# Altium footprint library Molex.PcbLib: 10 footprints
Each footprint in its own frame and in the unit in brackets; x right, y up, seen from the top. Pads: shape width x height; smd on the part's side, far side on the other; paste and mask are expansions set on the pad; w line width, h text height; cw(c..) or ccw(c..) is an arc to the next point about the centre after c.
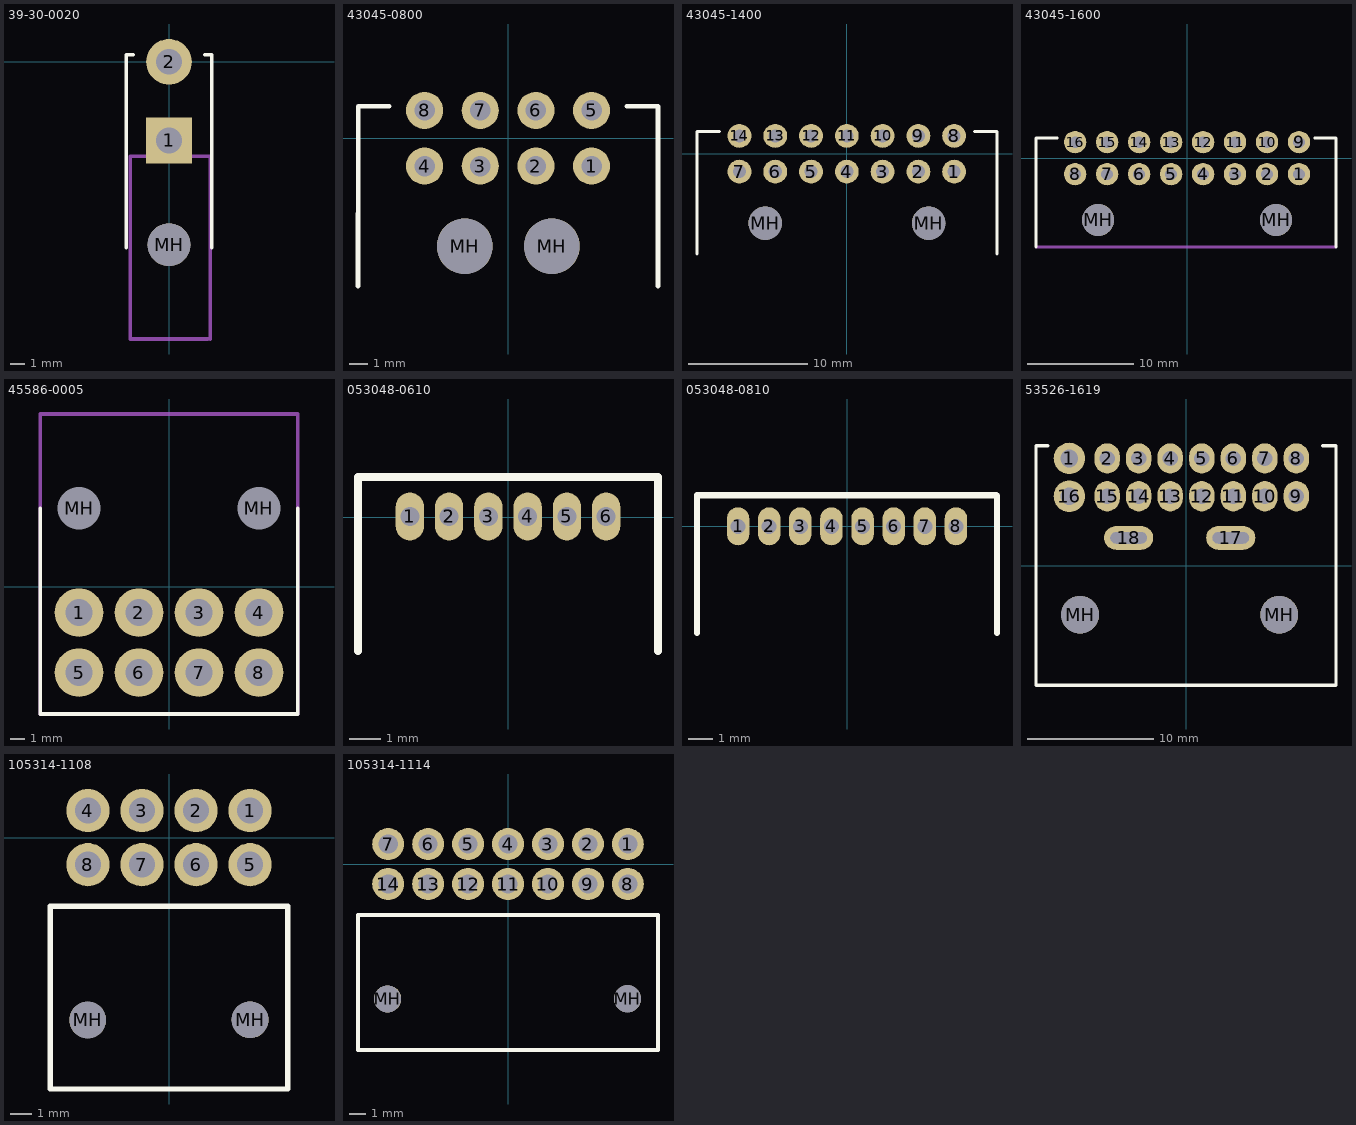
[diagram p0: the footprints below, top view; thin cyan lines are the x and y axes]

## 39-30-0020 [mm] "MINI-FIT JR RIGHT ANGLE"
height 9.6
pads (3):
  rect 3.2x3.2 hole 1.8: 1(0,-5.5)
  round 3.2 hole 1.8: 2(0,0)
  round 3 hole 3 unplated: MH(0,-12.8)
Top Overlay:
  lines w0.254: -3,-13 -3,0.5 -2.5,0.5 ; 2.5,0.5 3,0.5 3,-13
Mechanical 1:
  lines w0.254: 2.7,-19.4 -2.7,-19.4 -2.7,-6.6 2.9,-6.6 2.9,-19.4
3D body "39-30-1020.stp": height 11.4, standoff -3.6, extent -2.8,-19.367 3,0.567

## 43045-0800 [mm] "Micro-Fit 3.0 Right-Angle Header, 3.00mm Pitch, Dual Row, 8 Circuits, with Snap-in Plastic Peg PCB Lock, Tin, Glow-Wire Capable, Black"
height 8.77
pads (10):
  round 2 hole 1.1: 1(4.5,-1.5) 2(1.5,-1.5) 3(-1.5,-1.5) 4(-4.5,-1.5) 5(4.5,1.5) 6(1.5,1.5) 7(-1.5,1.5) 8(-4.5,1.5)
  round 3 hole 3 unplated: MH(-2.34,-5.82) MH(2.36,-5.82)
Top Overlay:
  lines w0.254: -8.09,-7.97 -8.08,0 -8.08,1.73 -6.4,1.73 ; 6.4,1.73 8.08,1.73 8.08,0 8.08,-7.97
3D body "User Library-43045-0800.step": height 8.83, standoff -3.12, extent -8.075,-10.51 8.075,1.73

## 43045-1400 [mm] "Micro-Fit 3.0 Right-Angle Header, 3.00mm Pitch, Dual Row, 14 Circuits, with Snap-in Plastic Peg PCB Lock, Tin, Glow-Wire Capable, Black"
height 8.77
pads (16):
  round 2 hole 1.1: 1(9,-1.5) 2(6,-1.5) 3(3,-1.5) 4(0,-1.5) 5(-3,-1.5) 6(-6,-1.5) 7(-9,-1.5) 8(9,1.5) 9(6,1.5) 10(3,1.5) 11(0,1.5) 12(-3,1.5) 13(-6,1.5) 14(-9,1.5)
  round 2.8 hole 2.8 unplated: MH(-6.84,-5.82) MH(6.86,-5.82)
Top Overlay:
  lines w0.254: -12.56,-8.41 -12.56,1.88 -10.68,1.88 ; 10.71,1.88 12.59,1.88 12.59,-7.13 12.59,-8.41
3D body "430451400.stp": height 8.83, standoff -3.12, extent -12.56,-10.36 12.59,1.88

## 43045-1600 [mm] "Micro-Fit 3.0 Right-Angle Header, 3.00mm Pitch, Dual Row, 16 Circuits, with Snap-in Plastic Peg PCB Lock, Tin, Glow-Wire Capable, Black"
height 8.77
pads (18):
  round 2.1 hole 1.1: 1(10.5,-1.5) 2(7.5,-1.5) 3(4.5,-1.5) 4(1.5,-1.5) 5(-1.5,-1.5) 6(-4.5,-1.5) 7(-7.5,-1.5) 8(-10.5,-1.5) 9(10.5,1.5) 10(7.5,1.5) 11(4.5,1.5) 12(1.5,1.5) 13(-1.5,1.5) 14(-4.5,1.5) 15(-7.5,1.5) 16(-10.5,1.5)
  round 3 hole 3 unplated: MH(-8.34,-5.8) MH(8.36,-5.8)
Top Overlay:
  lines w0.254: -14.17,-8.33 -14.17,1.88 -12.18,1.88 ; 11.97,1.88 13.97,1.88 13.97,-8.34
Mechanical 1:
  lines w0.254: -14.16,-8.34 13.97,-8.34
3D body "User Library-Molex43045-1600.step": height 8.83, standoff -3.12, extent -14.175,-10.37 13.975,1.87

## 45586-0005 [mm] "Mini-Fit Jr. Header, 4.2mm pitch, Dual Row, Right-Angle, Third Generation Polarization Type for PCIe Applications, 8 Circuits"
height 10
pads (10):
  round 3.4 hole 1.9: 1(-6.3,-1.8) 2(-2.1,-1.8) 3(2.1,-1.8) 4(6.3,-1.8) 5(-6.3,-6) 6(-2.1,-6) 7(2.1,-6) 8(6.3,-6)
  round 2.8 hole 3 unplated: MH(-6.3,5.5) MH(6.3,5.5)
Top Overlay:
  lines w0.254: -9,5.5 -9,-8.9 9,-8.9 9,5.5
Route Tool Path:
  lines w0.254: -9,-8.9 9,-8.9 9,12.1 -9,12.1 -9,-8.9
3D body "39-30-0080.stp": height 11.4, standoff -3.6, extent -9.2,-7.767 9.2,12.167

## 053048-0610 [mm] "PicoBlade™ CONN HEADER 6POS 1.25MM R/A TIN"
height 3.5
pads (7):
  oval 0.9x1.524 hole 0.6: 1(-3.125,0.025) 2(-1.875,0.025) 2(-1.875,0.025) 3(-0.625,0.025) 4(0.625,0.025) 5(1.875,0.025) 6(3.125,0.025)
Top Overlay:
  lines w0.254: -4.775,-4.25 -4.775,1.275 4.775,1.275 4.775,-4.25
3D body "530480610.stp": height 3.6, standoff -2.2, extent -4.65,-4.425 4.6,1.075

## 053048-0810 [mm] "PicoBlade™ CONN HEADER 8POS 1.25MM R/A TIN"
height 3.5
pads (9):
  oval 0.9x1.524 hole 0.6: 1(-4.375,0) 2(-3.125,0) 2(-3.125,0) 3(-1.875,0) 4(-0.625,0) 5(0.625,0) 6(1.875,0) 7(3.125,0) 8(4.375,0)
Top Overlay:
  lines w0.254: -6.025,-4.275 -6.025,1.25 6,1.25 6.025,1.225 ; 6.025,-4.275 6.025,1.225 ; 6.025,1.225 6.025,1.225
3D body "530480810.stp": height 3.6, standoff -2.2, extent -5.875,-4.425 5.875,1.075

## 53526-1619 [mm]
height 24
pads (20):
  round 2.5 hole 1.4: 1(-9.25,8.5) 16(-9.25,5.5)
  oval 2x2.4 hole 1.2: 2(-6.25,8.5) 3(-3.75,8.5) 4(-1.25,8.5) 5(1.25,8.5) 6(3.75,8.5) 7(6.25,8.5) 8(8.75,8.5) 9(8.75,5.5) 10(6.25,5.5) 11(3.75,5.5) 12(1.25,5.5) 13(-1.25,5.5) 14(-3.75,5.5) 15(-6.25,5.5)
  oval 3.9x1.9 hole 0.9 slot 2.9 at 0 deg: 17(3.55,2.2) 18(-4.55,2.2)
  round 3 hole 3 unplated: MH(-8.4,-3.9) MH(7.4,-3.9)
Top Overlay:
  lines w0.254: -11.9,0.05 -11.9,9.5 ; -10.95,9.5 -11.9,9.5 ; 10.85,9.5 11.9,9.5 11.9,0.05 11.9,-9.5 -8.4,-9.5 -11.9,-9.5 -11.9,9.5

## 105314-1108 [mm] "Nano-Fit Right-Angle Header, Through Hole, 2.50mm Pitch, Dual Row, 8 Circuits, Tin (Sn) Plating, Black"
height 9.14
pads (10):
  round 2 hole 1.2: 1(3.751,1.251) 2(1.251,1.251) 3(-1.249,1.251) 4(-3.749,1.251) 5(3.751,-1.249) 6(1.251,-1.249) 7(-1.249,-1.249) 8(-3.749,-1.249)
  round 1.7 hole 1.7 unplated: MH(-3.759,-8.433) MH(3.751,-8.424)
Top Overlay:
  lines w0.254: 5.436,-11.625 -5.486,-11.625 -5.486,-3.175 5.486,-3.175 5.486,-11.625
3D body "1053141108.stp": height 9.35, standoff -2.99, extent -5.454,-13.069 5.486,1.588

## 105314-1114 [mm] "Nano-Fit Right-Angle Header, Through Hole, 2.50mm Pitch, Dual Row, 14 Circuits, Tin (Sn) Plating, Black"
height 9.14
pads (16):
  round 2 hole 1.2: 1(7.489,1.255) 2(4.989,1.255) 3(2.489,1.255) 4(-0.011,1.255) 5(-2.511,1.255) 6(-5.011,1.255) 7(-7.511,1.255) 8(7.489,-1.245) 9(4.989,-1.245) 10(2.489,-1.245) 11(-0.011,-1.245) 12(-2.511,-1.245) 13(-5.011,-1.245) 14(-7.511,-1.245)
  round 1.7 hole 1.7 unplated: MH(-7.544,-8.433) MH(7.468,-8.424)
Top Overlay:
  lines w0.254: -9.398,-11.625 -9.398,-3.175 9.373,-3.175 9.373,-11.625 -9.398,-11.625
3D body "1053141114.stp": height 9.35, standoff -2.99, extent -9.245,-13.132 9.195,1.525